# Altium schematic symbol library Revo_connector.SchLib: 33 symbols
Pins are listed as number, name and electrical type; pins without a type are passive.

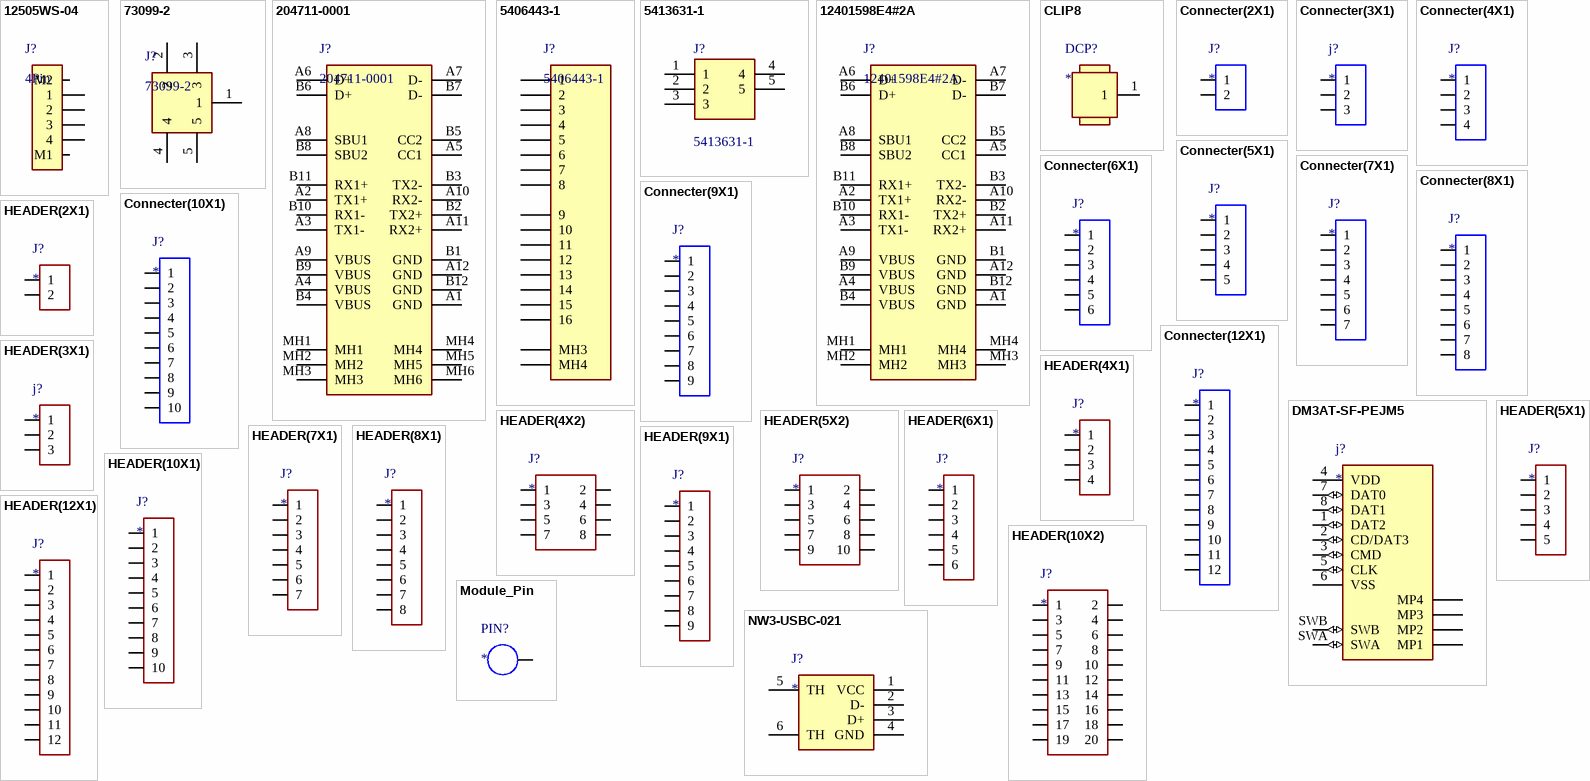
[diagram p0: symbols 12505WS-04 to NW3-USBC-021]

## 12505WS-04
designator J?, comment 4Pin
1.25(0.049")Pitch Connector; PartName: 12505WS-04; Made by: YEONHO ELECTRONICS; Value: 4Pin; Footprint: 12505WS-04; ComponentLink1Description: Datasheet; ComponentLink1URL: https://pdf1.alldatasheet.com/datasheet-pdf/view/147757/YEONHO/12505WS.html; ComponentLink2Description: Market; ComponentLink2URL: https://www.devicemart.co.kr/goods/view?no=12012602; Note: *
footprint 12505WS-04
pins: 1, 2, 3, 4, M1, M2

## 73099-2
designator J?
Test Plugs & Test Jacks RT ANG 4mm MOUNTING SAFETY JACK PCB RED; Made by: Pomona Electronics; PartName: 73099-2; Value: 73099-2; Footprint: Right-Angle Mounting; Note: Test Plugs & Test Jacks; ComponentLink1Description: Datasheet; ComponentLink1URL: https://www.mouser.kr/datasheet/2/159/d73099_101-1649201.pdf; ComponentLink2Description: Market; ComponentLink2URL: https://www.mouser.kr/ProductDetail/Pomona-Electronics/73099-2?qs=B6kkDfuK7%2FA6DpEPKtHqWw%3D%3D&mgh=1&utm_id=17722985420&utm_source=google&utm_medium=cpc&utm_marketing_tactic=apaccorp&gad_source=1&gclid=CjwKCAiA2cu9BhBhEiwAft6IxGUo6nw3zd9spQ9OPt9uq_NU1r7vDuOSNSLHjg1WI4WariFFa0j18xoCk_IQAvD_BwE
footprint 730992 (Test Plugs & Test Jacks RT ANG 4mm MOUNTING SAFETY JACK PCB RED)
pins: 1, 2, 3, 4, 5

## 204711-0001
designator J?
USB Connectors Vertical Type C SMnt 1.4mm SDR Tab; Made by: Molex; PartName: 204711-0001; Value: 204711-0001; Footprint: 204711-0001; Note: USB Connectors; ComponentLink1Description: Datasheet; ComponentLink1URL: https://www.molex.com/en-us/products/part-detail/2047110001?display=pdf; ComponentLink2Description: Market; ComponentLink2URL: https://www.mouser.kr/ProductDetail/Molex/204711-0001?qs=XeJtXLiO41T4bJ08%252B2ONwQ%3D%3D
pins: A1 GND, A2 TX1+, A3 TX1-, A4 VBUS, A5 CC1, A6 D+, A7 D-, A8 SBU1, A9 VBUS, A10 RX2-, A11 RX2+, A12 GND, B1 GND, B2 TX2+, B3 TX2-, B4 VBUS, B5 CC2, B6 D+, B7 D-, B8 SBU2, B9 VBUS, B10 RX1-, B11 RX1+, B12 GND, MH1, MH2, MH3, MH4, MH5, MH6

## 5406443-1
designator J?
Ethernet Connectors 1X2 8/8 R/A SHLD; Made by: TE Connectivity; PartName: 5406443-1; Value: 5406443-1; Footprint: RJ45 1x2; Note: Ethernet Connectors; ComponentLink1Description: Datasheet; ComponentLink1URL: https://www.te.com/commerce/DocumentDelivery/DDEController?Action=srchrtrv&DocNm=5406443&DocType=Customer+Drawing&DocLang=English&PartCntxt=5406443-1&DocFormat=pdf; ComponentLink2Description: Market; ComponentLink2URL: https://www.mouser.kr/ProductDetail/TE-Connectivity-Alcoswitch/5406443-1?qs=l9GpKJB5FDLwBG1Xq30WtQ%3D%3D
footprint 5406443-1
pins: 1, 2, 3, 4, 5, 6, 7, 8, 9, 10, 11, 12, 13, 14, 15, 16, MH3, MH4

## 5413631-1
designator J?
TE Connectivity Right Angle 50 Through Hole BNC Connector, jack, Nickel, Solder Termination; Geometry.Height: 11.15mm; Mouser Part Number: 571-5413631-1; Mouser Price/Stock: https://www.mouser.co.uk/ProductDetail/TE-Connectivity/5413631-1?qs=dJbzCyn%252BCFaCbwGSk5%2F70Q%3D%3D; Manufacturer_Name: TE Connectivity; Manufacturer_Part_Number: 5413631-1; Datasheet Link: https://www.te.com/commerce/DocumentDelivery/DDEController?Action=showdoc&DocId=Customer+Drawing%7F5413631%7FC%7Fpdf%7FEnglish%7FENG_CD_5413631_C.pdf%7F5413631-1
footprint 54136311
pins: 1, 2, 3, 4, 5

## 12401598E4#2A
designator J?
USB Connectors USB TYPE C RCPT R/A HYBRID DUAL SMT; Made by: AMPHENOL; PartName: 12401598E4#2A; Value: 12401598E4#2A; Footprint: 12401598E4#2A; Note: USB Connectors; ComponentLink1Description: Datasheet; ComponentLink1URL: https://cdn.amphenol-cs.com/media/wysiwyg/files/documentation/datasheet/inputoutput/io_usb_type_c.pdf; ComponentLink2Description: Market; ComponentLink2URL: https://www.mouser.kr/ProductDetail/Amphenol-Commercial-Products/12401598E42A?qs=367PjNmvCmllVMBVyIyS3w%3D%3D&utm_id=20395951125&gad_source=1&gclid=Cj0KCQjwu-63BhC9ARIsAMMTLXTrWDtS3gCGT3elplEcYnI7RnRFwD4kq1_vjU4R_cW4_V9f7op6iSgaAphWEALw_wcB
pins: A1 GND, A2 TX1+, A3 TX1-, A4 VBUS, A5 CC1, A6 D+, A7 D-, A8 SBU1, A9 VBUS, A10 RX2-, A11 RX2+, A12 GND, B1 GND, B2 TX2+, B3 TX2-, B4 VBUS, B5 CC2, B6 D+, B7 D-, B8 SBU2, B9 VBUS, B10 RX1-, B11 RX1+, B12 GND, MH1, MH2, MH3, MH4

## CLIP8
designator DCP?
Power Connect(High Voltage); PartName: CLIP8; Value: CLIP8; Footprint: CLIP8; Note: *; ComponentLink1Description: Datasheet; ComponentLink1URL: *; ComponentLink2Description: Market; ComponentLink2URL: *
footprint CLIP8
footprint Thuhole_NonPad(3mm) (Thuhole)
footprint Thuhole_Pad(6mm) (Thuhole)
footprint Thuhole_pad(7mm) (Thuhole)
pins: 1

## Connecter(2X1)
designator J?
Connect(Low Voltage); PartName: *; Value: *; Footprint: *; Made by: *; Note: *; ComponentLink1Description: Datasheet; ComponentLink1URL: *; ComponentLink2Description: Market; ComponentLink2URL: *
pins: 1, 2

## Connecter(3X1)
designator j?
Connect(Low Voltage); PartName: *; Value: *; Footprint: *; Made by: *; Note: *; ComponentLink1Description: Datasheet; ComponentLink1URL: *; ComponentLink2Description: Market; ComponentLink2URL: *
pins: 1, 2, 3

## Connecter(4X1)
designator J?
Connect(Low Voltage); PartName: *; Value: *; Footprint: *; Made by: *; Note: *; ComponentLink1Description: Datasheet; ComponentLink1URL: *; ComponentLink2Description: Market; ComponentLink2URL: *
pins: 1, 2, 3, 4

## Connecter(5X1)
designator J?
Connect(Low Voltage); PartName: *; Value: *; Footprint: *; Note: *; ComponentLink1Description: Datasheet; ComponentLink1URL: *; ComponentLink2Description: Market; ComponentLink2URL: *
pins: 1, 2, 3, 4, 5

## Connecter(6X1)
designator J?
Connect(Low Voltage); PartName: *; Value: *; Footprint: *; Made by: *; Note: *; ComponentLink1Description: Datasheet; ComponentLink1URL: *; ComponentLink2Description: Market; ComponentLink2URL: *
pins: 1, 2, 3, 4, 5, 6

## Connecter(7X1)
designator J?
Connect(Low Voltage); PartName: *; Value: *; Footprint: *; Made by: *; Note: *; ComponentLink1Description: Datasheet; ComponentLink1URL: *; ComponentLink2Description: Market; ComponentLink2URL: *
pins: 1, 2, 3, 4, 5, 6, 7

## Connecter(8X1)
designator J?
Connect(Low Voltage); PartName: *; Value: *; Footprint: *; Made by: *; Note: *; ComponentLink1Description: Datasheet; ComponentLink1URL: *; ComponentLink2Description: Market; ComponentLink2URL: *
pins: 1, 2, 3, 4, 5, 6, 7, 8

## Connecter(9X1)
designator J?
Connect(Low Voltage); PartName: *; Value: *; Footprint: *; Made by: *; Note: *; ComponentLink1Description: Datasheet; ComponentLink1URL: *; ComponentLink2Description: Market; ComponentLink2URL: *
pins: 1, 2, 3, 4, 5, 6, 7, 8, 9

## Connecter(10X1)
designator J?
Connect(Low Voltage); PartName: *; Value: *; Footprint: *; Made by: *; Note: *; ComponentLink1Description: Datasheet; ComponentLink1URL: *; ComponentLink2Description: Market; ComponentLink2URL: *
pins: 1, 2, 3, 4, 5, 6, 7, 8, 9, 10

## Connecter(12X1)
designator J?
Connect(Low Voltage); PartName: *; Value: *; Footprint: *; Made by: *; Note: *; ComponentLink1Description: Datasheet; ComponentLink1URL: *; ComponentLink2Description: Market; ComponentLink2URL: *
pins: 1, 2, 3, 4, 5, 6, 7, 8, 9, 10, 11, 12

## DM3AT-SF-PEJM5
designator j?
Memory Card Connectors; PartName: DM3AT-SF-PEJM5; Made by: Hirose Connector; Note: R/A SMT MICROSD CON PUSH-PUSH TOP BRDMNT; Value: *; Footprint: PCB Mount; ComponentLink1Description: Datasheet; ComponentLink1URL: file:///C:/Users/ksson/Downloads/DM3AT-SF-PEJM5_CL0609-0031-0-00_2DDrawing_0000947170.pdf; ComponentLink2Description: Market; ComponentLink2URL: https://www.mouser.kr/ProductDetail/Hirose-Connector/DM3AT-SF-PEJM5?qs=LZSZKJVF%252B2WTDKp%252BR7IYAQ%3D%3D
footprint DM3ATSFPEJM5
pins: 1 DAT2 (io), 2 CD/DAT3 (io), 3 CMD (io), 4 VDD, 5 CLK (io), 6 VSS, 7 DAT0 (io), 8 DAT1 (io), MP1, MP2, MP3, MP4, SWA (io), SWB (io)

## HEADER(2X1)
designator J?
HEADER; PartName: *; Value: *; Footprint: *; Made by: *; Note: *; ComponentLink1Description: Datasheet; ComponentLink1URL: *; ComponentLink2Description: Market; ComponentLink2URL: *
footprint HPM-02-01-X-S
pins: 1, 2

## HEADER(3X1)
designator j?
HEADER; PartName: *; Value: *; Footprint: *; Made by: *; Note: *; ComponentLink1Description: Datasheet; ComponentLink1URL: *; ComponentLink2Description: Market; ComponentLink2URL: *
pins: 1, 2, 3

## HEADER(4X1)
designator J?
HEADER; PartName: *; Value: *; Footprint: *; Made by: *; Note: *; ComponentLink1Description: Datasheet; ComponentLink1URL: *; ComponentLink2Description: Market; ComponentLink2URL: *
pins: 1, 2, 3, 4

## HEADER(4X2)
designator J?
HEADER; PartName: *; Value: *; Footprint: *; Made by: *; ComponentLink1Description: Datasheet; ComponentLink1URL: *; ComponentLink2Description: Market; ComponentLink2URL: *; Note: *
pins: 1, 2, 3, 4, 5, 6, 7, 8

## HEADER(5X1)
designator J?
HEADER; PartName: *; Value: *; Footprint: *; Made by: *; Note: *; ComponentLink1Description: Datasheet; ComponentLink1URL: *; ComponentLink2Description: Market; ComponentLink2URL: *
pins: 1, 2, 3, 4, 5

## HEADER(5X2)
designator J?
HEADER; PartName: *; Value: *; Footprint: *; Made by: *; Note: *; ComponentLink1Description: Datasheet; ComponentLink1URL: *; ComponentLink2Description: Market; ComponentLink2URL: *
pins: 1, 2, 3, 4, 5, 6, 7, 8, 9, 10

## HEADER(6X1)
designator J?
HEADER; PartName: *; Value: *; Footprint: *; Made by: *; Note: *; ComponentLink1Description: Datasheet; ComponentLink1URL: *; ComponentLink2Description: Market; ComponentLink2URL: *
pins: 1, 2, 3, 4, 5, 6

## HEADER(7X1)
designator J?
HEADER; PartName: *; Value: *; Footprint: *; Made by: *; Note: *; ComponentLink1Description: Datasheet; ComponentLink1URL: *; ComponentLink2Description: Market; ComponentLink2URL: *
pins: 1, 2, 3, 4, 5, 6, 7

## HEADER(8X1)
designator J?
HEADER; PartName: *; Value: *; Footprint: *; Made by: *; Note: *; ComponentLink1Description: Datasheet; ComponentLink1URL: *; ComponentLink2Description: Market; ComponentLink2URL: *
pins: 1, 2, 3, 4, 5, 6, 7, 8

## HEADER(9X1)
designator J?
HEADER; PartName: *; Value: *; Footprint: *; Made by: *; Note: *; ComponentLink1Description: Datasheet; ComponentLink1URL: *; ComponentLink2Description: Market; ComponentLink2URL: *
pins: 1, 2, 3, 4, 5, 6, 7, 8, 9

## HEADER(10X1)
designator J?
HEADER; PartName: *; Value: *; Footprint: *; Made by: *; Note: *; ComponentLink1Description: Datasheet; ComponentLink1URL: *; ComponentLink2Description: Market; ComponentLink2URL: *
pins: 1, 2, 3, 4, 5, 6, 7, 8, 9, 10

## HEADER(10X2)
designator J?
HEADER; PartName: *; Value: *; Footprint: *; Made by: *; Note: *; ComponentLink1Description: Datasheet; ComponentLink1URL: *; ComponentLink2Description: Market; ComponentLink2URL: *
pins: 1, 2, 3, 4, 5, 6, 7, 8, 9, 10, 11, 12, 13, 14, 15, 16, 17, 18, 19, 20

## HEADER(12X1)
designator J?
HEADER; PartName: *; Value: *; Footprint: *; Made by: *; Note: *; ComponentLink1Description: Datasheet; ComponentLink1URL: *; ComponentLink2Description: Market; ComponentLink2URL: *
pins: 1, 2, 3, 4, 5, 6, 7, 8, 9, 10, 11, 12

## Module_Pin
designator PIN?
PartName: NC; Value: *; Footprint: *; Made by: *; Note: *; ComponentLink1Description: Datasheet; ComponentLink1URL: *; ComponentLink2Description: Market; ComponentLink2URL: *
footprint TP_HOLE(1.0MM)
footprint TP_HOLE(2.0MM)
footprint TP_PAD(1mm)
footprint TP_PAD(2mm)
footprint Module_High_PIN
pins: 1

## NW3-USBC-021
designator J?
USB A/M Right-angle; PartName: NW3-USBC-021; Note: USB Connectors; Value: *; Footprint: NW3-USBC-021; Made by: *; ComponentLink1Description: Datasheet; ComponentLink1URL: *; ComponentLink2Description: Market; ComponentLink2URL: https://www.devicemart.co.kr/goods/view?no=1322880&srsltid=AfmBOoraju5UvE_rMHlLNMfFojTmx-MbqIS-eYKgV18wbe9-aKU7KW5s
footprint NW3-USBC-021
pins: 1 VCC, 2 D-, 3 D+, 4 GND, 5 TH, 6 TH